# Altium schematic symbol library CAN.SchLib: 6 symbols
Pins are listed as number, name and electrical type; pins without a type are passive.

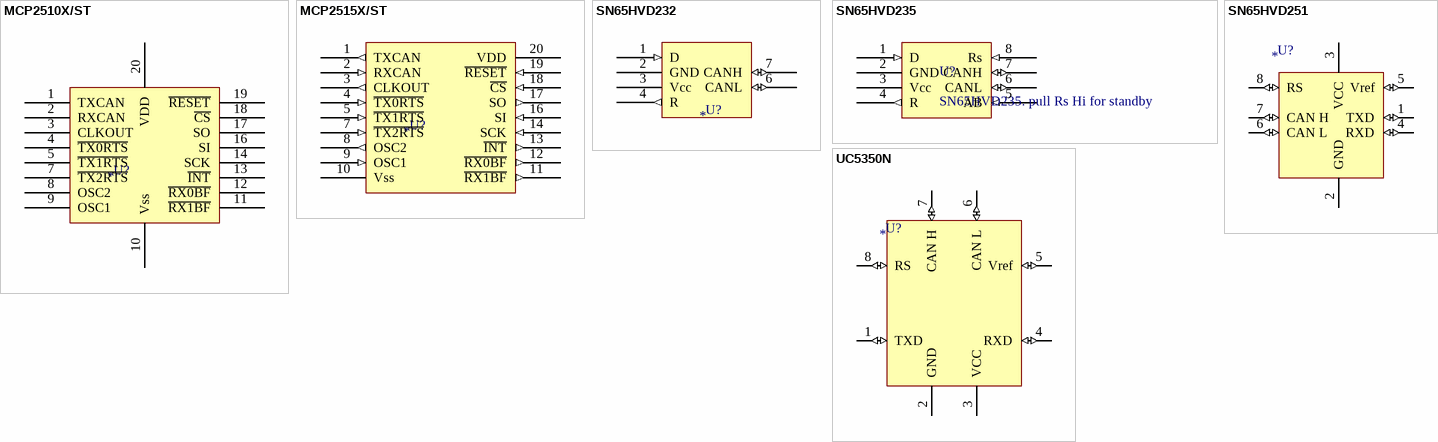
[diagram p0: symbols MCP2510X/ST to UC5350N]

## MCP2510X/ST
designator U?
MCP2510 CAN Controller
footprint TSSOP20
pins: 1 TXCAN, 2 RXCAN, 3 CLKOUT, 4 ~{TX0RTS}, 5 ~{TX1RTS}, 7 ~{TX2RTS}, 8 OSC2, 9 OSC1, 10 Vss (power), 11 ~{RX1BF}, 12 ~{RX0BF}, 13 ~{INT}, 14 SCK, 16 SI, 17 SO, 18 ~{CS}, 19 ~{RESET}, 20 VDD (power)

## MCP2515X/ST
designator U?
MCP2510 CAN Controller
footprint TSSOP20
pins: 1 TXCAN (out), 2 RXCAN (in), 3 CLKOUT (out), 4 ~{TX0RTS} (in), 5 ~{TX1RTS} (in), 7 ~{TX2RTS} (in), 8 OSC2 (out), 9 OSC1 (in), 10 Vss (power), 11 ~{RX1BF} (out), 12 ~{RX0BF} (out), 13 ~{INT} (out), 14 SCK (in), 16 SI (in), 17 SO (out), 18 ~{CS} (in), 19 ~{RESET} (in), 20 VDD (power)

## SN65HVD232
designator U?
3.3V CAN Transciever
footprint SO8
pins: 1 D (in), 2 GND (power), 3 Vcc (power), 4 R (out), 6 CANL (io), 7 CANH (io)

## SN65HVD235
designator U?, comment SN65HVD235. pull Rs Hi for standby
3.3V CAN XCVR W/STANDBY
footprint SO8
pins: 1 D (in), 2 GND (power), 3 Vcc (power), 4 R (out), 5 AB (in), 6 CANL (io), 7 CANH (io), 8 Rs (in)

## SN65HVD251
designator U?
CAN Transceiver
footprint SO-8
pins: 1 TXD (io), 2 GND (power), 3 VCC (power), 4 RXD (io), 5 Vref (io), 6 CAN L (io), 7 CAN H (io), 8 RS (io)

## UC5350N
designator U?
CAN Transceiver
footprint SO-8
pins: 1 TXD (io), 2 GND (power), 3 VCC (power), 4 RXD (io), 5 Vref (io), 6 CAN L (io), 7 CAN H (io), 8 RS (io)